# Altium schematic symbol library resistor_array_4.SchLib: 1 symbol
Pins are listed as number, name and electrical type; pins without a type are passive.

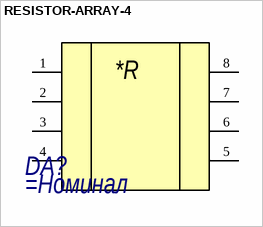
[diagram p0: symbol RESISTOR-ARRAY-4]

## RESISTOR-ARRAY-4
designator DA?
=Описание
pins: 1, 2, 3, 4, 5, 6, 7, 8
text: *R